# Altium schematic symbol library SCH - PASSIVES - CAPACITOR - MKP1848S62070JY5B.SCHLIB: 1 symbol
Pins are listed as number, name and electrical type; pins without a type are passive.

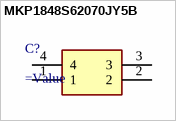
[diagram p0: symbol MKP1848S62070JY5B]

## MKP1848S62070JY5B
designator C?
Capacitor
pins: 1, 2, 3, 4